# Altium schematic symbol library 3352T-1-200LF.SchLib: 1 symbol
Pins are listed as number, name and electrical type; pins without a type are passive.

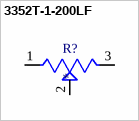
[diagram p0: symbol 3352T-1-200LF]

## 3352T-1-200LF
designator R?
Res Cermet Trimmer 20 Ohm 20% 1/2W 1(Elec)/1(Mech)Turn (8.89 X 9.53 X 3.81mm) Pin Thru-Hole Bag; MP: 3352T-1-200LF; MF: Bourns; Purchase-URL: https://pricing.snapeda.com/search/part/3352T-1-200LF/?ref=eda; Package: 3352T-3 Bourns; Price: None; Availability: In Stock; Value: *; Check_prices: https://www.snapeda.com/parts/3352T-1-200LF/Bourns/view-part/?ref=eda; SnapEDA_Link: https://www.snapeda.com/parts/3352T-1-200LF/Bourns/view-part/?ref=snap
footprint TRIM_3352T-1-200LF
pins: 1 CCW, 2 WIPER, 3 CW